# Altium footprint library CC110L.PcbLib: 2 footprints
Each footprint in its own frame and in the unit in brackets; x right, y up, seen from the top. Pads: shape width x height; smd on the part's side, far side on the other; paste and mask are expansions set on the pad; w line width, h text height; cw(c..) or ccw(c..) is an arc to the next point about the centre after c.
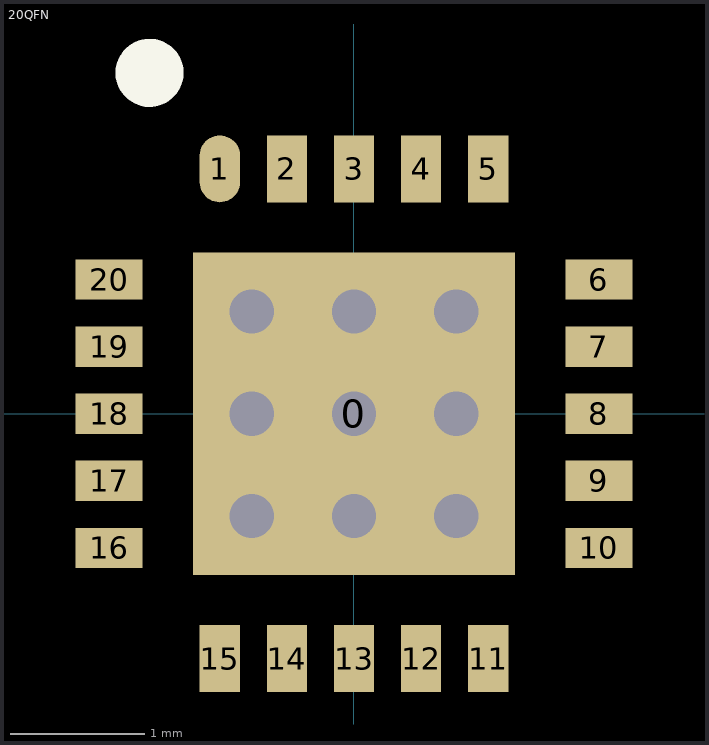
[diagram p0: the footprints below, top view; thin cyan lines are the x and y axes]

## 20QFN [mm]
pads (21):
  rect 2.4x2.4 smd mask+0: 0(0,0)
  oval 0.3x0.5 smd: 1(-1,1.825)
  rect 0.3x0.5 smd: 2(-0.5,1.825) 3(0,1.825) 4(0.5,1.825) 5(1,1.825) 11(1,-1.825) 12(0.5,-1.825) 13(0,-1.825) 14(-0.5,-1.825) 15(-1,-1.825)
  rect 0.5x0.3 smd: 6(1.825,1) 7(1.825,0.5) 8(1.825,0) 9(1.825,-0.5) 10(1.825,-1) 16(-1.825,-1) 17(-1.825,-0.5) 18(-1.825,0) 19(-1.825,0.5) 20(-1.825,1)
via -0.762,-0.762 diameter 0.381 hole 0.33
via -0.762,0 diameter 0.381 hole 0.33
via -0.762,0.762 diameter 0.381 hole 0.33
via 0.762,0.762 diameter 0.381 hole 0.33
via 0.762,0 diameter 0.381 hole 0.33
via 0.762,-0.762 diameter 0.381 hole 0.33
via 0,-0.762 diameter 0.381 hole 0.33
via 0,0.762 diameter 0.381 hole 0.33
via 0,0 diameter 0.381 hole 0.33
Top Overlay:
  circle w0.254: c-1.524,2.54 r0.127
3D body: height 1, standoff 0.05, extent -2.075,-2.075 2.075,2.075

## PCBComponent_1 [mm]